# Altium footprint library quartz_crystals_and_filters.PcbLib: 29 footprints (part 2 of 2)
Each footprint in its own frame and in the unit in brackets; x right, y up, seen from the top. Pads: shape width x height; smd on the part's side, far side on the other; paste and mask are expansions set on the pad; w line width, h text height; cw(c..) or ccw(c..) is an arc to the next point about the centre after c.
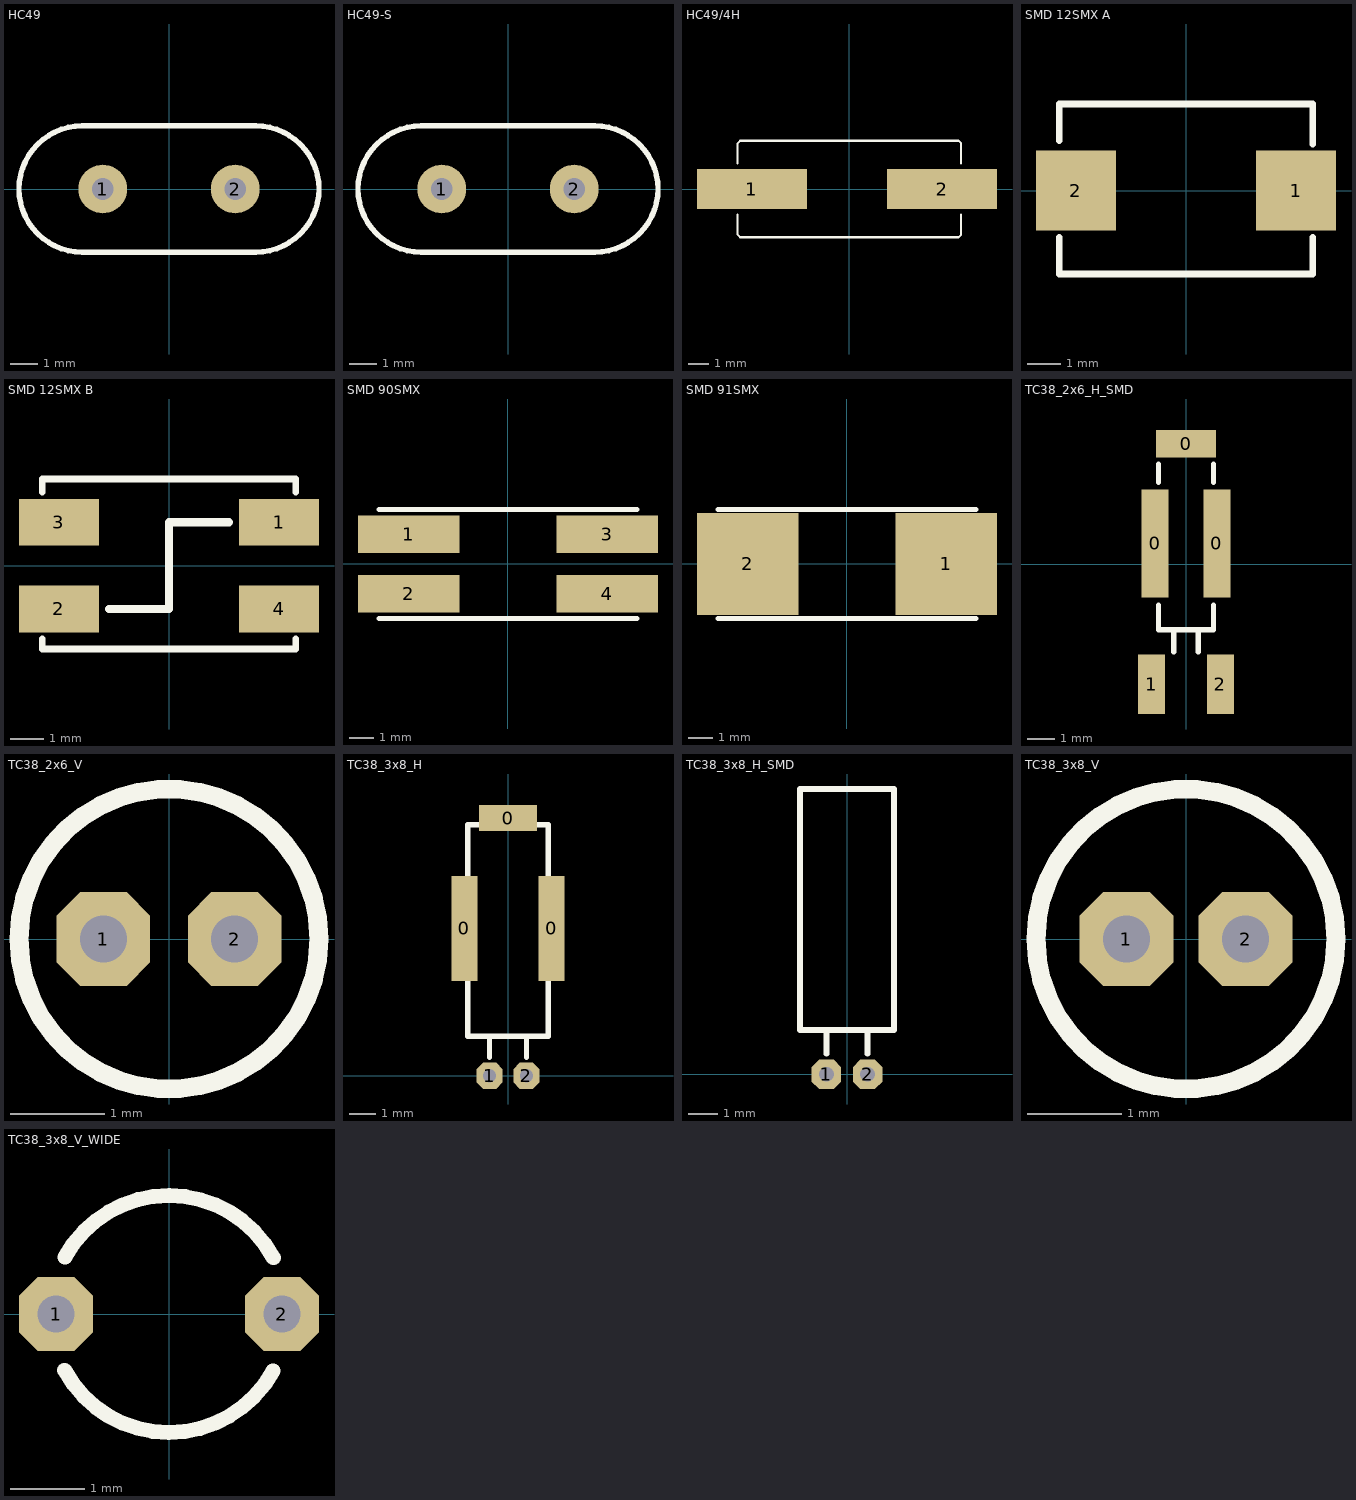
[diagram p1: the footprints below, top view; thin cyan lines are the x and y axes]

## HC49 [mm] "Crystal Oscillator"
height 13.46
pads (2):
  round 1.8 hole 0.8: 1(-2.44,0) 2(2.44,0)
Top Overlay:
  lines w0.2: -3.2,-2.325 cw(c-3.2,0) -3.2,2.325 3.2,2.325 cw(c3.2,0) 3.2,-2.325 -3.2,-2.325
3D body "SW3dPS-HC49U.STEP": height 13.49, standoff -1.97, extent -5.632,-2.322 5.54,2.35

## HC49-S [mm] "Crystal Oscillator"
height 13.46
pads (2):
  round 1.8 hole 0.8: 1(-2.44,0) 2(2.44,0)
Top Overlay:
  lines w0.2: -3.2,-2.325 cw(c-3.2,0) -3.2,2.325 3.2,2.325 cw(c3.2,0) 3.2,-2.325 -3.2,-2.325
3D body "SW3dPS-HC49S.STEP": height 3.63, standoff -1.97, extent -5.621,-2.348 5.551,2.325

## HC49/4H [mm] "Crystal Oscillator"
height 13.46
pads (2):
  rect 5.5x2 smd: 1(-4.87,0) 2(4.63,0)
Top Overlay:
  lines w0.102: -5.588,-1.27 -5.588,-2.286 -5.461,-2.413 5.461,-2.413 5.588,-2.286 5.588,-1.27 ; -5.588,1.27 -5.588,2.286 -5.461,2.413 5.461,2.413 5.588,2.286 5.588,1.27
3D body "SW3dPS-hc494H_SMD_cystal.STEP": height 5.08, standoff 0, extent -6.7,-2.45 6.7,2.45

## SMD 12SMX A [mm] "SMD crystal oscillator size A"
height 1.4
pads (2):
  rect 2.4x2.4 smd: 1(3.3,0) 2(-3.3,0)
Top Overlay:
  lines w0.2: -3.8,-1.4 -3.8,-2.5 3.8,-2.5 3.8,-1.4 ; -3.8,1.5 -3.8,2.6 3.8,2.6 3.8,1.4
3D body "User Library-EA96.step": height 1.3, standoff -0.2, extent -3.55,-3.582 3.55,-0.482
3D body "User Library-ZM206.step": height 2.43, standoff -0.1, extent -3.961,0.73 4.039,4.53

## SMD 12SMX B [mm] "SMD crystal oscillator size B"
height 1.4
pads (4):
  rect 2.4x1.4 smd: 1(3.3,1.3) 2(-3.3,-1.3) 3(-3.3,1.3) 4(3.3,-1.3)
Top Overlay:
  lines w0.2: -3.8,-2.2 -3.8,-2.5 3.8,-2.5 3.8,-2.2 ; -3.8,2.2 -3.8,2.6 3.8,2.6 3.8,2.2
  lines w0.254: -1.8,-1.3 0,-1.3 0,1.3 1.8,1.3

## SMD 90SMX [mm] "SMD crystal oscillator size 90SMX"
height 3.4
pads (4):
  rect 4.1x1.5 smd: 1(-4,1.2) 2(-4,-1.2) 3(4,1.2) 4(4,-1.2)
Top Overlay:
  lines w0.2: -5.2,-2.2 5.2,-2.2 ; -5.2,2.2 5.2,2.2

## SMD 91SMX [mm] "SMD crystal oscillator size 91SMX"
height 3.4
pads (2):
  rect 4.1x4.1 smd: 1(4,0) 2(-4,0)
Top Overlay:
  lines w0.2: -5.2,-2.2 5.2,-2.2 ; -5.2,2.2 5.2,2.2

## TC38_2x6_H_SMD [mm] "SMD TC38 (Size: 2x6mm) Horizontal Mounted Crystal Oscillator"
height 2
pads (5):
  rect 1x4 smd: 0(-1.143,0.762) 0(1.143,0.762)
  rect 2.2x1 smd: 0(0,4.445)
  rect 1x2.2 smd: 1(-1.27,-4.445) 2(1.27,-4.445)
Top Overlay:
  lines w0.2: -1.016,-1.524 -1.016,-2.437 1.016,-2.437 1.016,-1.524 ; -1.016,3.024 -1.016,3.683 ; -0.446,-3.237 -0.446,-2.437 ; 0.446,-3.237 0.446,-2.437 ; 1.016,3.024 1.016,3.683
3D body "User Library-TC38 SMD.step": height 2.1, standoff -0.15, extent -1.397,-5.385 1.393,4.115

## TC38_2x6_V [mm] "THT TC38 (Size: 2x6mm) Vertical Mounted Crystal Oscillator"
height 6
pads (2):
  oct 1x1 hole 0.5: 1(-0.7,0) 2(0.7,0)
Top Overlay:
  circle w0.2: c0,0 r1.6

## TC38_3x8_H [mm] "THT TC38 (Size: 3x8mm) Horizontal Mounted Crystal Oscillator"
height 3
pads (5):
  rect 1x4 smd: 0(-1.651,5.588) 0(1.651,5.588)
  rect 2.2x1 smd: 0(0,9.779)
  oct 1x1 hole 0.5: 1(-0.7,0) 2(0.7,0)
Top Overlay:
  lines w0.2: -0.7,0.7 -0.7,1.5 ; 0.7,0.7 0.7,1.5 ; -1.524,1.5 -1.524,9.525 1.524,9.525 1.524,1.5 -1.524,1.5

## TC38_3x8_H_SMD [mm] "SMD TC38 (Size: 3x8mm) Horizontal Mounted Crystal Oscillator"
height 3
pads (2):
  oct 1x1 hole 0.5: 1(-0.7,0) 2(0.7,0)
Top Overlay:
  lines w0.2: -0.7,0.7 -0.7,1.5 ; 0.7,0.7 0.7,1.5 ; -1.6,1.5 1.6,1.5 1.6,9.7 -1.6,9.7 -1.6,1.5

## TC38_3x8_V [mm] "THT TC38 (Size: 3x8mm) Vertical Mounted Crystal Oscillator"
height 8
pads (2):
  oct 1x1 hole 0.5: 1(-0.635,0) 2(0.635,0)
Top Overlay:
  circle w0.2: c0,0 r1.6
3D body "User Library-Crystal Radial 1_1mm pitch.step": height 8.2, standoff -2.95, extent -1.55,-1.55 1.55,1.55

## TC38_3x8_V_WIDE [mm] "THT TC38 (Size: 3x8mm) Vertical Mounted (Wide) Crystal Oscillator"
height 8.2
pads (2):
  oct 1x1 hole 0.5: 1(-1.524,0) 2(1.524,0)
Top Overlay:
  lines w0.2: -1.409,-0.759 ccw(c0,0) 1.405,-0.766 ; -1.405,0.766 cw(c0,0) 1.409,0.759
3D body "User Library-Crystal TH.step": height 9.48, standoff -1.3, extent -1.725,-1.6 1.725,1.6